# Altium schematic symbol library WL-SMDC.SchLib: 7 symbols
Pins are listed as number, name and electrical type; pins without a type are passive.

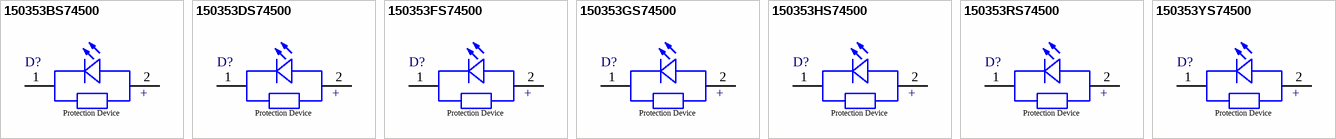
[diagram p0: symbols 150353BS74500 to 150353YS74500]

## 150353BS74500
designator D?, comment Blue, 3.2V, 125°  (value not drawn)
WL-SMDC SMT Mono-color Ceramic LED Waterclear, size 3535, Blue, 3.2V, 125°; Manufacturer Part Number: 150353BS74500; Manufacturer: Wurth Elektronik; Case/Size Code: 3535; Chip Technology: InGaN; Dominant Wavelength: 460nm; Luminous Flux: 25lm; Peak Wavelength: 455nm; Category: Signal LEDs; Match Code: WL-SMDC; ComponentLink1Description: Website Link; ComponentLink1URL: https://www.we-online.com/redexpert/article/150353BS74500?ad; ComponentLink2Description: Datasheet Link; ComponentLink2URL: https://www.we-online.com/redexpert/spec/150353BS74500?ad; Mount: Surface Mount; Min Operating Temperature: -40°C; Max Operating Temperature: 125°C; Packaging: Tape and Reel; Length: 3.4mm; Width: 3.4mm; Height: 2.1mm; Emitting Color: Blue; Forward Voltage: 3.2V; Viewing Angle: 125°
footprint WL-SMDC_3535
simulation model 3535_150353BS74500
pins: 1 K, 2 A
text: +; Protection Device

## 150353DS74500
designator D?, comment Deep Blue, 3.2V, 125°  (value not drawn)
WL-SMDC Horticulture SMT Monocolor Ceramic LED Waterclear, size 3535, Deep Blue, 3.2V, 125°; Manufacturer Part Number: 150353DS74500; Manufacturer: Wurth Elektronik; Case/Size Code: 3535; Chip Technology: InGaN; Peak Wavelength: 450nm; Radiant Flux: 600mw; Category: Signal LEDs; Match Code: WL-SMDC; ComponentLink1Description: Website Link; ComponentLink1URL: https://www.we-online.com/redexpert/article/150353DS74500?ad; ComponentLink2Description: Datasheet Link; ComponentLink2URL: https://www.we-online.com/redexpert/spec/150353DS74500?ad; Mount: Surface Mount; Min Operating Temperature: -40°C; Max Operating Temperature: 100°C; Packaging: Tape and Reel; Length: 3.4mm; Width: 3.4mm; Height: 2.1mm; Emitting Color: Deep Blue; Forward Voltage: 3.2V; Viewing Angle: 125°
footprint WL-SMDC_3535
simulation model 3535_150353DS74500
pins: 1 K, 2 A
text: +; Protection Device

## 150353FS74500
designator D?, comment Far Red, 1.8V, 125°  (value not drawn)
WL-SMDC Horticulture SMT Monocolor Ceramic LED Waterclear, size 3535, Far Red, 1.8V, 125°; Manufacturer Part Number: 150353FS74500; Manufacturer: Wurth Elektronik; Case/Size Code: 3535; Chip Technology: AlInGaP; Emitting Color: Far Red; Peak Wavelength: 730nm; Radiant Flux: 350mw; Category: Signal LEDs; Match Code: WL-SMDC; ComponentLink1Description: Website Link; ComponentLink1URL: https://www.we-online.com/redexpert/article/150353FS74500?ad; ComponentLink2Description: Datasheet Link; ComponentLink2URL: https://www.we-online.com/redexpert/spec/150353FS74500?ad; Mount: Surface Mount; Min Operating Temperature: -40°C; Max Operating Temperature: 100°C; Packaging: Tape and Reel; Length: 3.4mm; Width: 3.4mm; Height: 2.1mm; Forward Voltage: 1.8V; Viewing Angle: 125°
footprint WL-SMDC_3535
simulation model 3535_150353FS74500
pins: 1 K, 2 A
text: +; Protection Device

## 150353GS74500
designator D?, comment Green, 3.4V, 125°  (value not drawn)
WL-SMDC SMT Mono-color Ceramic LED Waterclear, size 3535, Green, 3.4V, 125°; Manufacturer Part Number: 150353GS74500; Manufacturer: Wurth Elektronik; Case/Size Code: 3535; Chip Technology: InGaN; Dominant Wavelength: 525nm; Luminous Flux: 85lm; Peak Wavelength: 520nm; Category: Signal LEDs; Match Code: WL-SMDC; ComponentLink1Description: Website Link; ComponentLink1URL: https://www.we-online.com/redexpert/article/150353GS74500?ad; ComponentLink2Description: Datasheet Link; ComponentLink2URL: https://www.we-online.com/redexpert/spec/150353GS74500?ad; Mount: Surface Mount; Min Operating Temperature: -40°C; Max Operating Temperature: 125°C; Packaging: Tape and Reel; Length: 3.4mm; Width: 3.4mm; Height: 2.1mm; Emitting Color: Green; Forward Voltage: 3.4V; Viewing Angle: 125°
footprint WL-SMDC_3535
simulation model 3535_150353GS74500
pins: 1 K, 2 A
text: +; Protection Device

## 150353HS74500
designator D?, comment Hyper Red, 2.2V, 125°  (value not drawn)
WL-SMDC Horticulture SMT Monocolor Ceramic LED Waterclear, size 3535, Hyper Red, 2.2V, 125°; Manufacturer Part Number: 150353HS74500; Manufacturer: Wurth Elektronik; Case/Size Code: 3535; Chip Technology: AlInGaP; Peak Wavelength: 660nm; Radiant Flux: 440mw; Category: Signal LEDs; Match Code: WL-SMDC; ComponentLink1Description: Website Link; ComponentLink1URL: https://www.we-online.com/redexpert/article/150353HS74500?ad; ComponentLink2Description: Datasheet Link; ComponentLink2URL: https://www.we-online.com/redexpert/spec/150353HS74500?ad; Mount: Surface Mount; Min Operating Temperature: -40°C; Max Operating Temperature: 100°C; Packaging: Tape and Reel; Length: 3.4mm; Width: 3.4mm; Height: 2.1mm; Emitting Color: Hyper Red; Forward Voltage: 2.2V; Viewing Angle: 125°
footprint WL-SMDC_3535
simulation model 3535_150353HS74500
pins: 1 K, 2 A
text: +; Protection Device

## 150353RS74500
designator D?, comment Red, 2.2V, 125°  (value not drawn)
WL-SMDC SMT Mono-color Ceramic LED Waterclear, size 3535, Red, 2.2V, 125°; Manufacturer Part Number: 150353RS74500; Manufacturer: Wurth Elektronik; Case/Size Code: 3535; Chip Technology: AlInGaP; Dominant Wavelength: 625nm; Luminous Flux: 70lm; Peak Wavelength: 635nm; Category: Signal LEDs; Match Code: WL-SMDC; ComponentLink1Description: Website Link; ComponentLink1URL: https://www.we-online.com/redexpert/article/150353RS74500?ad; ComponentLink2Description: Datasheet Link; ComponentLink2URL: https://www.we-online.com/redexpert/spec/150353RS74500?ad; Mount: Surface Mount; Min Operating Temperature: -40°C; Max Operating Temperature: 125°C; Packaging: Tape and Reel; Length: 3.4mm; Width: 3.4mm; Height: 2.1mm; Emitting Color: Red; Forward Voltage: 2.2V; Viewing Angle: 125°
footprint WL-SMDC_3535
simulation model 3535_150353RS74500
pins: 1 K, 2 A
text: +; Protection Device

## 150353YS74500
designator D?, comment Yellow, 2.2V, 125°  (value not drawn)
WL-SMDC SMT Mono-color Ceramic LED Waterclear, size 3535, Yellow, 2.2V, 125°; Manufacturer Part Number: 150353YS74500; Manufacturer: Wurth Elektronik; Case/Size Code: 3535; Chip Technology: AlInGaP; Dominant Wavelength: 590nm; Luminous Flux: 90lm; Peak Wavelength: 593nm; Category: Signal LEDs; Match Code: WL-SMDC; ComponentLink1Description: Website Link; ComponentLink1URL: https://www.we-online.com/redexpert/article/150353YS74500?ad; ComponentLink2Description: Datasheet Link; ComponentLink2URL: https://www.we-online.com/redexpert/spec/150353YS74500?ad; Mount: Surface Mount; Min Operating Temperature: -40°C; Max Operating Temperature: 125°C; Packaging: Tape and Reel; Length: 3.4mm; Width: 3.4mm; Height: 2.1mm; Emitting Color: Yellow; Forward Voltage: 2.2V; Viewing Angle: 125°
footprint WL-SMDC_3535
simulation model 3535_150353YS74500
pins: 1 K, 2 A
text: +; Protection Device